# Altium footprint library Protection Fuses PTC.PcbLib: 2 footprints
Each footprint in its own frame and in the unit in brackets; x right, y up, seen from the top. Pads: shape width x height; smd on the part's side, far side on the other; paste and mask are expansions set on the pad; w line width, h text height; cw(c..) or ccw(c..) is an arc to the next point about the centre after c.
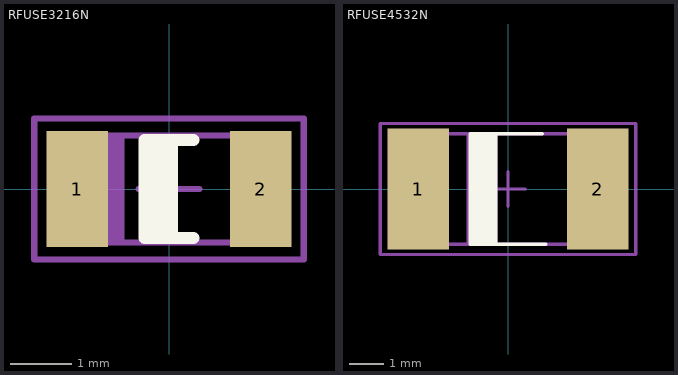
[diagram p0: the footprints below, top view; thin cyan lines are the x and y axes]

## RFUSE3216N [mm] "SMT Low Profile PTC Resettable Fuses, Body 3.2x1.6mm"
height 0.71
pads (2):
  rect 1x1.9 smd: 1(-1.5,0) 2(1.5,0)
Top Overlay:
  rectangle: -0.4,-0.8 0.15,0.8
  lines w0.2: 0.4,-0.8 -0.4,-0.8 -0.4,0.8 0.4,0.8
Top Package:
  rectangle: -1.1,-0.875 -0.775,0.875
  lines w0.1: -0.775,-0.875 -0.775,0.875 ; 1.15,-0.875 1.15,0.875 ; -1.675,-0.875 1.675,-0.875 1.675,0.875 -1.675,0.875 -1.675,-0.875 ; -1.1,-0.875 -1.1,0.875 -1.1,-0.875
Top Border:
  lines w0.1: -0.5,0 0.5,0 ; 0,-0.5 0,0.5 ; -2.2,-1.15 -2.2,1.15 2.2,1.15 2.2,-1.15 -2.2,-1.15
3D body "FUSE3216.step": height 0.56, standoff 0, extent -1.601,-0.826 1.601,0.826

## RFUSE4532N [mm] "SMT Low Profile PTC Resettable Fuses, Body 4.5x3.2mm"
height 0.71
pads (2):
  rect 1.78x3.5 smd: 1(-2.6,0) 2(2.6,0)
Top Overlay:
  rectangle: -1.1,-1.6 -0.3,1.6
  lines w0.1: 1,1.6 -1.1,1.6 -1.1,-1.6 1.1,-1.6
Top Package:
  rectangle: -1.2,-1.6 -0.3,1.6
  lines w0.1: -1.775,-1.6 -1.775,1.6 ; 1.775,-1.6 1.775,1.6 ; -2.25,-1.6 2.25,-1.6 2.25,1.6 -2.25,1.6 -2.25,-1.6
Top Border:
  lines w0.1: -0.5,0 0.5,0 ; 0,-0.5 0,0.5 ; -3.7,-1.9 -3.7,1.9 3.7,1.9 3.7,-1.9 -3.7,-1.9
3D body "FUSE4532.step": height 0.28, standoff -0.28, extent -2.25,-1.6 2.25,1.6